# Altium footprint library PCB_LIB2.PcbLib: 25 footprints (part 1 of 2)
Each footprint in its own frame and in the unit in brackets; x right, y up, seen from the top. Pads: shape width x height; smd on the part's side, far side on the other; paste and mask are expansions set on the pad; w line width, h text height; cw(c..) or ccw(c..) is an arc to the next point about the centre after c.
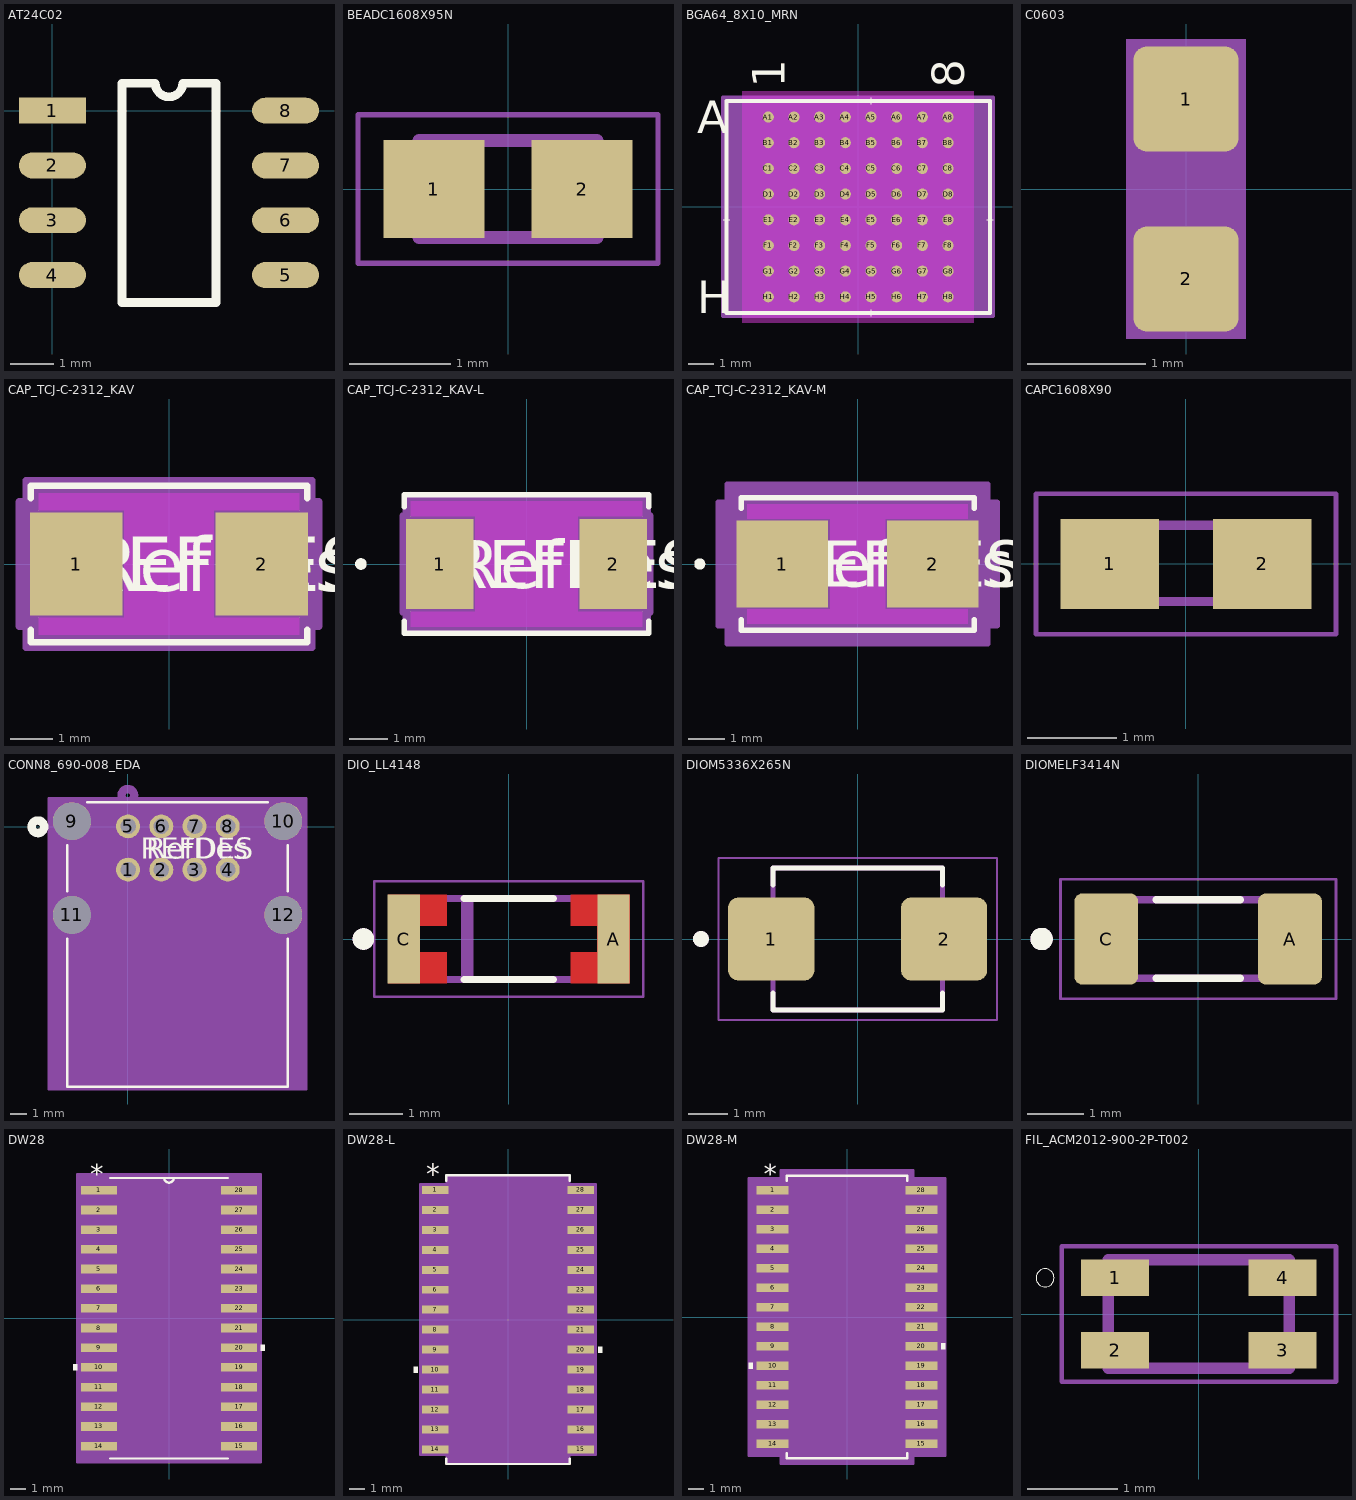
[diagram p0: the footprints below, top view; thin cyan lines are the x and y axes]

## AT24C02 [mm]
pads (8):
  rect 1.55x0.6 smd: 1(0,0)
  oval 1.55x0.6 smd: 2(0,-1.27) 3(0,-2.54) 4(0,-3.81) 5(5.4,-3.81) 6(5.4,-2.54) 7(5.4,-1.27) 8(5.4,0)
Top Overlay:
  lines w0.2: 1.61,-4.445 3.79,-4.445 3.79,0.635 3.017,0.635 cw(c2.7,0.635) 2.382,0.635 1.61,0.635 1.61,-4.445

## BEADC1608X95N [mm]
pads (2):
  rect 1x0.97 smd: 1(-0.735,0) 2(0.735,0)
Mechanical 13:
  lines w0.127: -0.88,-0.48 -0.88,0.48 0.88,0.48 0.88,-0.48 -0.88,-0.48
Mechanical 15:
  lines w0.05: -1.485,-0.735 -1.485,0.735 1.485,0.735 1.485,-0.735 -1.485,-0.735
3D body "step_temp.STEP": height 0.95, standoff 0, extent -0.8,-0.4 0.8,0.4

## BGA64_8X10_MRN [mil]
pads (64):
  round 17 smd paste+0 mask+0: A1(-137.8,137.8) A2(-98.43,137.8) A3(-59.06,137.8) A4(-19.68,137.8) A5(19.68,137.8) A6(59.06,137.8) A7(98.43,137.8) A8(137.8,137.8) B1(-137.8,98.43) B2(-98.43,98.43) B3(-59.06,98.43) B4(-19.68,98.43) B5(19.68,98.43) B6(59.06,98.43) B7(98.43,98.43) B8(137.8,98.43) C1(-137.8,59.06) C2(-98.43,59.06) C3(-59.06,59.06) C4(-19.68,59.06) C5(19.68,59.06) C6(59.06,59.06) C7(98.43,59.06) C8(137.8,59.06) D1(-137.8,19.68) D2(-98.43,19.68) D3(-59.06,19.68) D4(-19.68,19.68) D5(19.68,19.68) D6(59.06,19.68) D7(98.43,19.68) D8(137.8,19.68) E1(-137.8,-19.68) E2(-98.43,-19.68) E3(-59.06,-19.68) E4(-19.68,-19.68) E5(19.68,-19.68) E6(59.06,-19.68) E7(98.43,-19.68) E8(137.8,-19.68) F1(-137.8,-59.06) F2(-98.43,-59.06) F3(-59.06,-59.06) F4(-19.68,-59.06) F5(19.68,-59.06) F6(59.06,-59.06) F7(98.43,-59.06) F8(137.8,-59.06) G1(-137.8,-98.43) G2(-98.43,-98.43) G3(-59.06,-98.43) G4(-19.68,-98.43) G5(19.68,-98.43) G6(59.06,-98.43) G7(98.43,-98.43) G8(137.8,-98.43) H1(-137.8,-137.8) H2(-98.43,-137.8) H3(-59.06,-137.8) H4(-19.68,-137.8) H5(19.68,-137.8) H6(59.06,-137.8) H7(98.43,-137.8) H8(137.8,-137.8)
Top Overlay:
  lines w1: -207,-19.69 -197,-19.69 ; 19.69,-167.5 19.69,-157.5 ; 19.69,157.5 19.69,167.5 ; 197,-19.69 207,-19.69
  lines w6: -202,-162.5 -202,162.5 202,162.5 202,-162.5 -202,-162.5
  text ".Designator" at -137.5,-25 h50
  text "8" at 162.8,182.5 h50
  text "1" at -112.8,182.5 h50
  text "H" at -247,-162.8 h50
  text "A" at -247,112.8 h50
Bottom Overlay:
  text "8" at 112.8,182.5 h50
  text "1" at -162.8,182.5 h50
  text "H" at -222,-162.8 h50
  text "A" at -222,112.8 h50
Keep-Out Layer:
  region: -177.48,-177.48 -177.48,177.48 177.48,177.48 177.48,-177.48
Mechanical 13:
  lines w1: -197,137.81 -177.31,157.5 ; -197,-157.5 -197,157.5 197,157.5 197,-157.5 -197,-157.5
  text "8" at 162.8,182.5 h50
  text "1" at -112.8,182.5 h50
  text "H" at -247,-162.8 h50
  text "A" at -247,112.8 h50
  text ".Designator" at -137.5,-25 h50
Mechanical 15:
  region: 207,-167.5 -207,-167.5 -207,167.5 207,167.5
  lines w6: -207,-167.5 207,-167.5 207,167.5 -207,167.5 -207,-167.5
3D body "BGA64_8X10_MRN.step": height 47.09, standoff 0, extent -197.01,-157.48 197.01,157.48

## C0603 [mil]
pads (2):
  rrect25% 35x35 smd: 1(0,30) 2(0,-30)
Mechanical 15:
  region: 20,-50 -20,-50 -20,50 20,50
3D body "step_temp.STEP": height 35.43, standoff 0, extent -31.5,-15.75 31.5,15.75

## CAP_TCJ-C-2312_KAV [mil]
pads (2):
  rect 85x95 smd paste+0 mask+0: 1(-85.5,0) 2(85.5,0)
Top Layer keep-out:
  region: -120,-65 -120,-49.5 120,-49.5 120,-65
  region: -120,49.5 -120,65 120,65 120,49.5
  region: -41,-49.5 -41,49.5 41,49.5 41,-49.5
Top Overlay:
  lines w6: -127,-60.6 -127,-72 127,-72 127,-60.6 ; -127,60.6 -127,72 127,72 127,60.6
  text "REFDES" at -87.5,-25 h50
  text "RefDes" at -75,-25 h50
Keep-Out Layer:
  region: -41,-49.5 -41,49.5 41,49.5 41,-49.5
Mechanical 13:
  lines w1: -122,-67 -122,67 122,67 122,-67 -122,-67
  text "RefDes2" at -87.5,-25 h50
Mechanical 15:
  region: -132,-57.5 -138,-57.5 -138,57.5 -132,57.5 -132,77 132,77 132,57.5 138,57.5 138,-57.5 132,-57.5 132,-77 -132,-77
  lines w6: -138,-57.5 -132,-57.5 -132,-77 132,-77 132,-57.5 138,-57.5 138,57.5 132,57.5 132,77 -132,77 -132,57.5 -138,57.5 -138,-57.5
3D body "CAP_TCJ-C-2312_KAV.step": height 112.01, standoff 0, extent -122.01,-67.01 122.01,67.01

## CAP_TCJ-C-2312_KAV-L [mil]
pads (2):
  rect 70x93 smd paste+0 mask+0: 1(-90,0) 2(90,0)
Top Layer keep-out:
  region: -53,-49.5 -53,49.5 53,49.5 53,-49.5
  region: -120,49.5 -120,65 120,65 120,49.5
  region: -120,-65 -120,-49.5 120,-49.5 120,-65
Top Overlay:
  circle w6: c-172,0 r3
  lines w6: -127,-59.45 -127,-72 127,-72 127,-59.45 ; -127,59.45 -127,72 127,72 127,59.45
  text "RefDes" at -75,-25 h50
  text "REFDES" at -87.5,-25 h50
Keep-Out Layer:
  region: -53,-49.5 -53,49.5 53,49.5 53,-49.5
Mechanical 13:
  circle w0: c-112,0 r3
  lines w1: -122,-67 122,-67 122,67 -122,67 -122,-67
  text "RefDes2" at -87.5,-25 h50
Mechanical 15:
  region: -126,-50.5 -129,-50.5 -129,50.5 -126,50.5 -126,71 126,71 126,50.5 129,50.5 129,-50.5 126,-50.5 126,-71 -126,-71
  lines w6: -129,-50.5 -129,50.5 -126,50.5 -126,71 126,71 126,50.5 129,50.5 129,-50.5 126,-50.5 126,-71 -126,-71 -126,-50.5 -129,-50.5
3D body "CAP_TCJ-C-2312_KAV.step": height 112.01, standoff 0, extent -122.01,-67.01 122.01,67.01

## CAP_TCJ-C-2312_KAV-M [mil]
pads (2):
  rect 100x95 smd paste+0 mask+0: 1(-82,0) 2(82,0)
Top Layer keep-out:
  region: -120,-65 -120,-49.5 120,-49.5 120,-65
  region: -120,49.5 -120,65 120,65 120,49.5
  region: -30,-49.5 -30,49.5 30,49.5 30,-49.5
Top Overlay:
  circle w6: c-172,0 r3
  lines w6: -127,-60.6 -127,-72 127,-72 127,-60.6 ; -127,60.6 -127,72 127,72 127,60.6
  text "REFDES" at -87.5,-25 h50
  text "RefDes" at -75,-25 h50
Keep-Out Layer:
  region: -30,-49.5 -30,49.5 30,49.5 30,-49.5
Mechanical 13:
  circle w0: c-112,0 r3
  lines w1: -122,-67 -122,67 122,67 122,-67 -122,-67
  text "RefDes2" at -87.5,-25 h50
Mechanical 15:
  region: -142,-67.5 -152,-67.5 -152,67.5 -142,67.5 -142,87 142,87 142,67.5 152,67.5 152,-67.5 142,-67.5 142,-87 -142,-87
  lines w6: -152,-67.5 -142,-67.5 -142,-87 142,-87 142,-67.5 152,-67.5 152,67.5 142,67.5 142,87 -142,87 -142,67.5 -152,67.5 -152,-67.5
3D body "CAP_TCJ-C-2312_KAV.step": height 112.01, standoff 0, extent -122.01,-67.01 122.01,67.01

## CAPC1608X90 [mm]
pads (2):
  rect 1.1x1 smd: 1(-0.85,0) 2(0.85,0)
Mechanical 13:
  region: 0.83,-0.47 0.33,-0.47 0.33,0.48 0.83,0.48
  region: -0.338,-0.47 -0.838,-0.47 -0.838,0.48 -0.338,0.48
  lines w0.102: -0.356,-0.419 0.356,-0.419 ; -0.356,0.432 0.356,0.432
Mechanical 15:
  lines w0.051: -1.673,-0.783 -1.673,0.783 1.673,0.783 1.673,-0.783 -1.673,-0.783
3D body "step_temp.STEP": height 0.95, standoff 0, extent -0.8,-0.4 0.8,0.4

## CONN8_690-008_EDA [mil]
pads (12):
  round 57 / inner round 60 / far side round 57 hole 37 paste-99999 mask+0: 1(0.73,-102.15) 2(79.87,-102.15) 3(159,-102.15) 4(238.13,-102.15) 5(0.73,1) 6(79.87,1) 7(159,1) 8(238.13,1)
  round 90 / inner round 60 / far side round 90 hole 90 unplated paste-99999 mask+0: 9(-133.27,13.39) 10(370.67,13.39) 11(-133.27,-210.24) 12(370.67,-210.24)
Top Overlay:
  circle w20: c-214.3,0 r15
  lines w6: -144.3,-267.28 -144.3,-619.85 381.7,-619.85 381.7,-267.28 ; -144.3,-153.19 -144.3,-43.66 ; -96.23,58.15 333.63,58.15 ; 381.7,-153.19 381.7,-43.66
  text "REFDES" at 31.2,-76.57 h50
  text "RefDes" at 43.7,-76.57 h50
Bottom Overlay:
  circle w20: c-214.3,0 r15
Mechanical 13:
  circle w20: c0,75 r15
  lines w1: -139.3,-614.85 -139.3,53.15 376.7,53.15 376.7,-614.85 -139.3,-614.85
  text "RefDes2" at 31.2,-76.57 h50
Mechanical 15:
  region: 425.67,68.39 -188.27,68.39 -188.27,-624.85 425.67,-624.85
  lines w6: -188.27,-624.85 425.67,-624.85 425.67,68.39 -188.27,68.39 -188.27,-624.85

## DIO_LL4148 [mm]
height 1.5
pads (2):
  rect 0.6x1.65 smd paste+0 mask+0.102: A(1.95,0) C(-1.95,0)
Top Layer:
  region: -1.15,0.25 -1.65,0.25 -1.65,-0.25 -1.15,-0.25 -1.15,-0.825 -2.24,-0.825 -2.24,0.825 -1.15,0.825
  region: 2.25,-0.825 1.15,-0.825 1.15,-0.25 1.65,-0.25 1.65,0.25 1.15,0.25 1.15,0.825 2.25,0.825
Top Overlay:
  circle w0.2: c-2.7,0 r0.1
  lines w0.127: -0.83,-0.75 0.83,-0.75 ; -0.83,0.75 0.83,0.75
Top Paste:
  region: -1.15,0.25 -1.65,0.25 -1.65,0.825 -1.15,0.825
  region: -1.15,-0.825 -1.65,-0.825 -1.65,-0.25 -1.15,-0.25
  region: -1.15,-0.825 -1.65,-0.825 -1.65,-0.25 -1.15,-0.25
  region: 1.65,-0.825 1.15,-0.825 1.15,-0.25 1.65,-0.25
  region: 1.65,0.25 1.15,0.25 1.15,0.825 1.65,0.825
  region: 1.65,0.25 1.15,0.25 1.15,0.825 1.65,0.825
Top Solder:
  region: -1.05,0.15 -1.55,0.15 -1.55,0.925 -1.05,0.925
  region: -1.05,-0.925 -1.55,-0.925 -1.55,-0.15 -1.05,-0.15
  region: 1.55,-0.925 1.05,-0.925 1.05,-0.15 1.55,-0.15
  region: 1.55,0.15 1.05,0.15 1.05,0.925 1.55,0.925
Mechanical 13:
  circle w0.2: c-2.7,0 r0.1
  lines w0.127: -0.82,-0.75 -0.82,0.75 ; -0.72,-0.75 -0.72,0.75 ; -1.82,-0.75 -1.82,0.75 1.82,0.75 1.82,-0.75 -1.82,-0.75
Mechanical 15:
  lines w0.05: -2.5,-1.075 -2.5,1.075 2.5,1.075 2.5,-1.075 -2.5,-1.075
3D body "step_temp.STEP": height 0.74, standoff -0.74, extent -1.623,-0.717 1.877,0.762

## DIOM5336X265N [mm]
height 2.65
pads (2):
  rrect24% 2.2x2.12 smd paste+0 mask+0.102: 1(-2.205,0) 2(2.205,0)
Top Overlay:
  circle w0.2: c-4,0 r0.1
  lines w0.127: -2.163,-1.38 -2.163,-1.813 2.163,-1.813 2.163,-1.38 ; -2.163,1.38 -2.163,1.813 2.163,1.813 2.163,1.38
Mechanical 13:
  circle w0.2: c-4,0 r0.1
  lines w0.127: -2.163,-1.813 -2.163,1.813 2.163,1.813 2.163,-1.813 -2.163,-1.813
Mechanical 15:
  lines w0.05: -3.555,-2.063 3.555,-2.063 3.555,2.063 -3.555,2.063 -3.555,-2.063
3D body "step_temp.STEP": height 2.65, standoff 0, extent -2.675,-1.813 2.675,1.813

## DIOMELF3414N [mm]
height 1.5
pads (2):
  rrect25% 1.14x1.63 smd: A(1.64,0) C(-1.64,0)
Top Overlay:
  circle w0.2: c-2.795,0 r0.1
  lines w0.127: -0.75,-0.7 0.75,-0.7 ; -0.75,0.7 0.75,0.7
Mechanical 13:
  circle w0.2: c-2.795,0 r0.1
  lines w0.127: -1.7,-0.7 1.7,-0.7 1.7,0.7 -1.7,0.7 -1.7,-0.7
Mechanical 15:
  lines w0.05: -2.46,-1.065 2.46,-1.065 2.46,1.065 -2.46,1.065 -2.46,-1.065
3D body "step_temp.STEP": height 1.4, standoff 0, extent -1.7,-0.7 1.7,0.7

## DW28 [mil]
pads (28):
  rect 91x22 smd paste-45.5 mask-45.5: 1(-178,325) 2(-178,275) 3(-178,225) 4(-178,175) 5(-178,125) 6(-178,75) 7(-178,25) 8(-178,-25) 9(-178,-75) 10(-178,-125) 11(-178,-175) 12(-178,-225) 13(-178,-275) 14(-178,-325) 15(178,-325) 16(178,-275) 17(178,-225) 18(178,-175) 19(178,-125) 20(178,-75) 21(178,-25) 22(178,25) 23(178,75) 24(178,125) 25(178,175) 26(178,225) 27(178,275) 28(178,325)
Top Overlay:
  region: -233.5,-117.5 -243.5,-117.5 -243.5,-132.5 -233.5,-132.5
  region: 233.5,-67.5 243.5,-67.5 243.5,-82.5 233.5,-82.5
  lines w6: -149.5,-356.5 149.5,-356.5 ; -149.5,356.5 149.5,356.5 ; -12,356.5 ccw(c0,356.5) 12,356.5
  text "*" at -200.5,342 h50
  text ".Designator" at -137.5,-25 h50
Mechanical 13:
  lines w1: -12,356.5 ccw(c0,356.5) 12,356.5 ; -209.5,-335 -209.5,-315 -149.5,-315 -149.5,-335 -209.5,-335 ; -209.5,-285 -209.5,-265 -149.5,-265 -149.5,-285 -209.5,-285 ; -209.5,-235 -209.5,-215 -149.5,-215 -149.5,-235 -209.5,-235 ; -209.5,-185 -209.5,-165 -149.5,-165 -149.5,-185 -209.5,-185 ; -209.5,-135 -209.5,-115 -149.5,-115 -149.5,-135 -209.5,-135 ; -209.5,-85 -209.5,-65 -149.5,-65 -149.5,-85 -209.5,-85 ; -209.5,-35 -209.5,-15 -149.5,-15 -149.5,-35 -209.5,-35 ; -209.5,15 -209.5,35 -149.5,35 -149.5,15 -209.5,15 ; -209.5,65 -209.5,85 -149.5,85 -149.5,65 -209.5,65 ; -209.5,115 -209.5,135 -149.5,135 -149.5,115 -209.5,115 ; -209.5,165 -209.5,185 -149.5,185 -149.5,165 -209.5,165 ; -209.5,215 -209.5,235 -149.5,235 -149.5,215 -209.5,215 ; -209.5,265 -209.5,285 -149.5,285 -149.5,265 -209.5,265 ; -209.5,315 -209.5,335 -149.5,335 -149.5,315 -209.5,315 ; -149.5,-356.5 149.5,-356.5 149.5,356.5 -149.5,356.5 -149.5,-356.5 ; 149.5,-335 149.5,-315 209.5,-315 209.5,-335 149.5,-335 ; 149.5,-285 149.5,-265 209.5,-265 209.5,-285 149.5,-285 ; 149.5,-235 149.5,-215 209.5,-215 209.5,-235 149.5,-235 ; 149.5,-185 149.5,-165 209.5,-165 209.5,-185 149.5,-185 ; 149.5,-135 149.5,-115 209.5,-115 209.5,-135 149.5,-135 ; 149.5,-85 149.5,-65 209.5,-65 209.5,-85 149.5,-85 ; 149.5,-35 149.5,-15 209.5,-15 209.5,-35 149.5,-35 ; 149.5,15 149.5,35 209.5,35 209.5,15 149.5,15 ; 149.5,65 149.5,85 209.5,85 209.5,65 149.5,65 ; 149.5,115 149.5,135 209.5,135 209.5,115 149.5,115 ; 149.5,165 149.5,185 209.5,185 209.5,165 149.5,165 ; 149.5,215 149.5,235 209.5,235 209.5,215 149.5,215 ; 149.5,265 149.5,285 209.5,285 209.5,265 149.5,265 ; 149.5,315 149.5,335 209.5,335 209.5,315 149.5,315
  text ".Designator" at -137.5,-25 h50
  text "*" at -200.5,342 h50
Mechanical 15:
  region: 233.5,-366.5 -233.5,-366.5 -233.5,366.5 233.5,366.5
  lines w6: -233.5,-366.5 -233.5,366.5 233.5,366.5 233.5,-366.5 -233.5,-366.5
3D body "DW28.step": height 104.09, standoff 0, extent -209.49,-356.5 209.49,356.5

## DW28-L [mil]
pads (28):
  rect 66x20 smd paste+0 mask+0: 1(-182.5,325) 2(-182.5,275) 3(-182.5,225) 4(-182.5,175) 5(-182.5,125) 6(-182.5,75) 7(-182.5,25) 8(-182.5,-25) 9(-182.5,-75) 10(-182.5,-125) 11(-182.5,-175) 12(-182.5,-225) 13(-182.5,-275) 14(-182.5,-325) 15(182.5,-325) 16(182.5,-275) 17(182.5,-225) 18(182.5,-175) 19(182.5,-125) 20(182.5,-75) 21(182.5,-25) 22(182.5,25) 23(182.5,75) 24(182.5,125) 25(182.5,175) 26(182.5,225) 27(182.5,275) 28(182.5,325)
Top Overlay:
  region: 225.5,-67.5 235.5,-67.5 235.5,-82.5 225.5,-82.5
  region: -225.5,-117.5 -235.5,-117.5 -235.5,-132.5 -225.5,-132.5
  lines w6: -154.5,-348.1 -154.5,-361.5 154.5,-361.5 154.5,-348.1 ; -154.5,348.1 -154.5,361.5 154.5,361.5 154.5,348.1
  text ".Designator" at -137.5,-25 h50
  text "*" at -205,340 h50
Mechanical 13:
  lines w1: -12,356.5 ccw(c0,356.5) 12,356.5 ; -209.5,-335 -149.5,-335 -149.5,-315 -209.5,-315 -209.5,-335 ; -209.5,-285 -149.5,-285 -149.5,-265 -209.5,-265 -209.5,-285 ; -209.5,-235 -149.5,-235 -149.5,-215 -209.5,-215 -209.5,-235 ; -209.5,-185 -149.5,-185 -149.5,-165 -209.5,-165 -209.5,-185 ; -209.5,-135 -149.5,-135 -149.5,-115 -209.5,-115 -209.5,-135 ; -209.5,-85 -149.5,-85 -149.5,-65 -209.5,-65 -209.5,-85 ; -209.5,-35 -149.5,-35 -149.5,-15 -209.5,-15 -209.5,-35 ; -209.5,15 -149.5,15 -149.5,35 -209.5,35 -209.5,15 ; -209.5,65 -149.5,65 -149.5,85 -209.5,85 -209.5,65 ; -209.5,115 -149.5,115 -149.5,135 -209.5,135 -209.5,115 ; -209.5,165 -149.5,165 -149.5,185 -209.5,185 -209.5,165 ; -209.5,215 -149.5,215 -149.5,235 -209.5,235 -209.5,215 ; -209.5,265 -149.5,265 -149.5,285 -209.5,285 -209.5,265 ; -209.5,315 -149.5,315 -149.5,335 -209.5,335 -209.5,315 ; -149.5,-356.5 -149.5,356.5 149.5,356.5 149.5,-356.5 -149.5,-356.5 ; 149.5,-335 209.5,-335 209.5,-315 149.5,-315 149.5,-335 ; 149.5,-285 209.5,-285 209.5,-265 149.5,-265 149.5,-285 ; 149.5,-235 209.5,-235 209.5,-215 149.5,-215 149.5,-235 ; 149.5,-185 209.5,-185 209.5,-165 149.5,-165 149.5,-185 ; 149.5,-135 209.5,-135 209.5,-115 149.5,-115 149.5,-135 ; 149.5,-85 209.5,-85 209.5,-65 149.5,-65 149.5,-85 ; 149.5,-35 209.5,-35 209.5,-15 149.5,-15 149.5,-35 ; 149.5,15 209.5,15 209.5,35 149.5,35 149.5,15 ; 149.5,65 209.5,65 209.5,85 149.5,85 149.5,65 ; 149.5,115 209.5,115 209.5,135 149.5,135 149.5,115 ; 149.5,165 209.5,165 209.5,185 149.5,185 149.5,165 ; 149.5,215 209.5,215 209.5,235 149.5,235 149.5,215 ; 149.5,265 209.5,265 209.5,285 149.5,285 149.5,265 ; 149.5,315 209.5,315 209.5,335 149.5,335 149.5,315
  text "*" at -147,303.5 h50
  text ".Designator" at -137.5,-25 h50
Mechanical 15:
  region: -153.5,-339 -219.5,-339 -219.5,339 -153.5,339 -153.5,360.5 153.5,360.5 153.5,339 219.5,339 219.5,-339 153.5,-339 153.5,-360.5 -153.5,-360.5
  lines w6: -219.5,-339 -153.5,-339 -153.5,-360.5 153.5,-360.5 153.5,-339 219.5,-339 219.5,339 153.5,339 153.5,360.5 -153.5,360.5 -153.5,339 -219.5,339 -219.5,-339
3D body "DW28.step": height 104.09, standoff 0, extent -209.49,-356.5 209.49,356.5

## DW28-M [mil]
pads (28):
  rect 82x22 smd paste+0 mask+0: 1(-190.5,325) 2(-190.5,275) 3(-190.5,225) 4(-190.5,175) 5(-190.5,125) 6(-190.5,75) 7(-190.5,25) 8(-190.5,-25) 9(-190.5,-75) 10(-190.5,-125) 11(-190.5,-175) 12(-190.5,-225) 13(-190.5,-275) 14(-190.5,-325) 15(190.5,-325) 16(190.5,-275) 17(190.5,-225) 18(190.5,-175) 19(190.5,-125) 20(190.5,-75) 21(190.5,-25) 22(190.5,25) 23(190.5,75) 24(190.5,125) 25(190.5,175) 26(190.5,225) 27(190.5,275) 28(190.5,325)
Top Overlay:
  region: -241.5,-117.5 -251.5,-117.5 -251.5,-132.5 -241.5,-132.5
  region: 241.5,-67.5 251.5,-67.5 251.5,-82.5 241.5,-82.5
  lines w6: -154.5,-349.1 -154.5,-361.5 154.5,-361.5 154.5,-349.1 ; -154.5,349.1 -154.5,361.5 154.5,361.5 154.5,349.1
  text "*" at -213,342 h50
  text ".Designator" at -137.5,-25 h50
Mechanical 13:
  lines w1: -12,356.5 ccw(c0,356.5) 12,356.5 ; -209.5,-335 -209.5,-315 -149.5,-315 -149.5,-335 -209.5,-335 ; -209.5,-285 -209.5,-265 -149.5,-265 -149.5,-285 -209.5,-285 ; -209.5,-235 -209.5,-215 -149.5,-215 -149.5,-235 -209.5,-235 ; -209.5,-185 -209.5,-165 -149.5,-165 -149.5,-185 -209.5,-185 ; -209.5,-135 -209.5,-115 -149.5,-115 -149.5,-135 -209.5,-135 ; -209.5,-85 -209.5,-65 -149.5,-65 -149.5,-85 -209.5,-85 ; -209.5,-35 -209.5,-15 -149.5,-15 -149.5,-35 -209.5,-35 ; -209.5,15 -209.5,35 -149.5,35 -149.5,15 -209.5,15 ; -209.5,65 -209.5,85 -149.5,85 -149.5,65 -209.5,65 ; -209.5,115 -209.5,135 -149.5,135 -149.5,115 -209.5,115 ; -209.5,165 -209.5,185 -149.5,185 -149.5,165 -209.5,165 ; -209.5,215 -209.5,235 -149.5,235 -149.5,215 -209.5,215 ; -209.5,265 -209.5,285 -149.5,285 -149.5,265 -209.5,265 ; -209.5,315 -209.5,335 -149.5,335 -149.5,315 -209.5,315 ; -149.5,-356.5 149.5,-356.5 149.5,356.5 -149.5,356.5 -149.5,-356.5 ; 149.5,-335 149.5,-315 209.5,-315 209.5,-335 149.5,-335 ; 149.5,-285 149.5,-265 209.5,-265 209.5,-285 149.5,-285 ; 149.5,-235 149.5,-215 209.5,-215 209.5,-235 149.5,-235 ; 149.5,-185 149.5,-165 209.5,-165 209.5,-185 149.5,-185 ; 149.5,-135 149.5,-115 209.5,-115 209.5,-135 149.5,-135 ; 149.5,-85 149.5,-65 209.5,-65 209.5,-85 149.5,-85 ; 149.5,-35 149.5,-15 209.5,-15 209.5,-35 149.5,-35 ; 149.5,15 149.5,35 209.5,35 209.5,15 149.5,15 ; 149.5,65 149.5,85 209.5,85 209.5,65 149.5,65 ; 149.5,115 149.5,135 209.5,135 209.5,115 149.5,115 ; 149.5,165 149.5,185 209.5,185 209.5,165 149.5,165 ; 149.5,215 149.5,235 209.5,235 209.5,215 149.5,215 ; 149.5,265 149.5,285 209.5,285 209.5,265 149.5,265 ; 149.5,315 149.5,335 209.5,335 209.5,315 149.5,315
  text ".Designator" at -137.5,-25 h50
  text "*" at -147,303.5 h50
Mechanical 15:
  region: -169.5,-356 -251.5,-356 -251.5,356 -169.5,356 -169.5,376.5 169.5,376.5 169.5,356 251.5,356 251.5,-356 169.5,-356 169.5,-376.5 -169.5,-376.5
  lines w6: -251.5,-356 -251.5,356 -169.5,356 -169.5,376.5 169.5,376.5 169.5,356 251.5,356 251.5,-356 169.5,-356 169.5,-376.5 -169.5,-376.5 -169.5,-356 -251.5,-356
3D body "DW28.step": height 104.09, standoff 0, extent -209.49,-356.5 209.49,356.5

## FIL_ACM2012-900-2P-T002 [mm]
pads (4):
  rect 0.75x0.4 smd: 1(-0.925,0.4) 2(-0.925,-0.4) 3(0.925,-0.4) 4(0.925,0.4)
Top Overlay:
  circle w0: c-1.7,0.4 r0.1
Mechanical 13:
  circle w0: c-0.8,0.4 r0.1
  lines w0.127: -1,-0.6 -1,0.6 1,0.6 1,-0.6 -1,-0.6
Mechanical 15:
  lines w0.05: -1.516,-0.75 -1.516,0.75 1.516,0.75 1.516,-0.75 -1.516,-0.75